# Altium footprint library LED Displays & Accessories.PcbLib: 1 footprints
Each footprint in its own frame and in the unit in brackets; x right, y up, seen from the top. Pads: shape width x height; smd on the part's side, far side on the other; paste and mask are expansions set on the pad; w line width, h text height; cw(c..) or ccw(c..) is an arc to the next point about the centre after c.
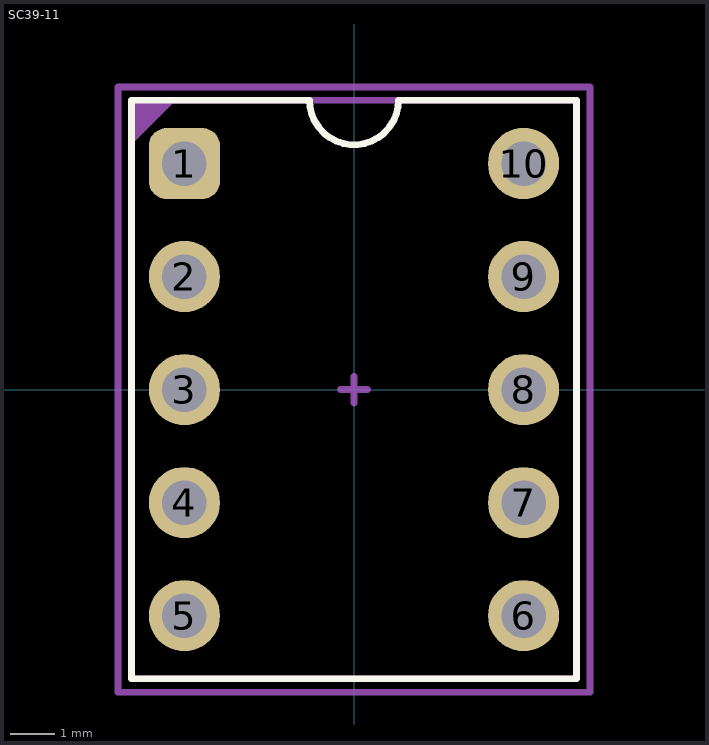
[diagram p0: the footprint, top view; thin cyan lines are the x and y axes]

## SC39-11 [mm]
pads (10):
  rrect50% 1.6x1.6 hole 1: 1(-3.81,5.08)
  round 1.6 hole 1: 2(-3.81,2.54) 3(-3.81,0) 4(-3.81,-2.54) 5(-3.81,-5.08) 6(3.81,-5.08) 7(3.81,-2.54) 8(3.81,0) 9(3.81,2.54) 10(3.81,5.08)
Top Overlay:
  lines w0.153: -5,-6.5 5,-6.5 5,6.5 1,6.5 cw(c0,6.5) -1,6.5 -5,6.5 -5,-6.5
Top Assembly:
  region: -5,6.5 -5,5.5 -4,6.5
  lines w0.153: -5,-6.5 5,-6.5 5,6.5 -5,6.5 -5,-6.5
  text "'.Designator'" at -4.532,-0.333 h0.8
Top Courtyard (Mech6):
  lines w0.153: -0.3,0 0.3,0 ; 0,-0.3 0,0.3 ; -5.3,-6.8 -5.3,6.8 5.3,6.8 5.3,-6.8 -5.3,-6.8
3D body "SA39-11.STEP": height 7, standoff -4, extent -5,-6.5 5,6.5